# Altium footprint library con-hirschmann.PCBLIB: 22 footprints (part 2 of 2)
Each footprint in its own frame and in the unit in brackets; x right, y up, seen from the top. Pads: shape width x height; smd on the part's side, far side on the other; paste and mask are expansions set on the pad; w line width, h text height; cw(c..) or ccw(c..) is an arc to the next point about the centre after c.
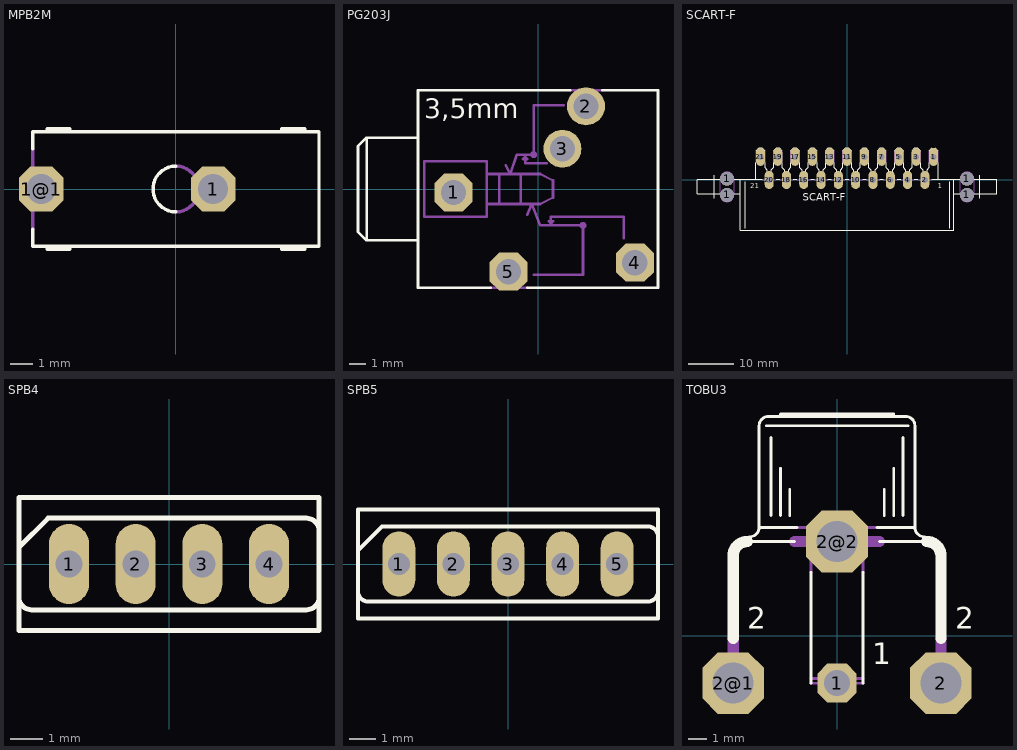
[diagram p1: the footprints below, top view; thin cyan lines are the x and y axes]

## MPB2M [mil]
pads (2):
  oct 78x78 hole 52: 1(65,0) 1@1(-235,0)
Top Overlay:
  lines w6: -250,-70 -250,-100 -225,-100 ; -250,70 -250,100 -225,100 ; 0,-40 cw(c0,0) 0,40 ; -225,-100 -225,-105 -185,-105 -185,-100 ; -225,-100 -185,-100 ; -225,100 -185,100 ; -225,100 -225,105 -185,105 -185,100 ; -185,-100 185,-100 ; -185,100 185,100 ; 185,-100 185,-105 225,-105 225,-100 ; 185,-100 225,-100 ; 185,100 225,100 ; 185,100 185,105 225,105 225,100 ; 225,-100 250,-100 250,100 225,100
Mechanical 16:
  lines w6: -250,-70 -250,70 ; 0,-40 ccw(c0,0) 0,40

## PG203J [mil]
pads (5):
  oct 88.5x88.5 hole 59: 1(-197,-8) 4(226,-172) 5(-69,-193)
  round 88.5 hole 59: 2(112,193) 3(57,94)
Top Overlay:
  lines w6: -110,-230 -280,-230 -280,-120 ; -25,-230 280,-230 280,230 150,230 ; 75,230 -280,230 -280,120 ; -400,-120 -280,-120 ; -400,-120 -420,-100 -420,100 -400,120 ; -400,-120 -400,120 ; -400,120 -280,120 ; -280,-120 -280,120
  text "3,5mm" at -265,150 h77.5
Mechanical 16:
  circle w6: c105,-85 r5
  circle w6: c-10,80 r5
  lines w6: -110,-230 -25,-230 ; -75,55 -65,35 ; -25,-60 -15,-35 ; -10,-200 105,-200 105,-85 30,-85 ; 20,60 -30,60 -30,75 ; 60,195 -10,195 -10,80 -30,80 ; 75,230 150,230 ; 200,-115 200,-65 30,-65 30,-80 ; -120,-35 -120,35 ; -120,-35 -120,-65 -265,-65 -265,65 -120,65 -120,35 ; -120,-35 -90,-35 ; -120,35 -90,35 ; -90,-35 -40,-35 ; -90,-35 -90,35 ; -90,35 -65,35 ; -65,35 -50,80 -30,80 ; -65,35 -40,35 ; -40,-35 -40,35 ; -40,-35 -15,-35 ; -40,35 5,35 35,20 35,-20 5,-35 -15,-35 ; -30,75 -30,80 ; -30,75 -35,70 -25,70 -30,75 ; -15,-35 5,-85 30,-85 ; 30,-85 30,-80 ; 30,-80 25,-75 35,-75 30,-80
  text "1" at -250,-50 h77.5
  text "2" at 165,150 h77.5
  text "3" at 110,50 h77.5
  text "4" at 215,-110 h77.5
  text "5" at -5,-185 h77.5

## SCART-F [mil]
pads (25):
  round 119 hole 119: 1(-1040,-130) 1(-1040,10) 1(1040,-130) 1(1040,10)
  oval 78x156 hole 52: 1(750,200) 2(675,0) 3(600,200) 4(525,0) 5(450,200) 6(375,0) 7(300,200) 8(225,0) 9(150,200) 10(75,0) 11(0,200) 12(-75,0) 13(-150,200) 14(-225,0) 15(-300,200) 16(-375,0) 17(-450,200) 18(-525,0) 19(-600,200) 20(-675,0) 21(-750,200)
Top Overlay:
  lines w2: -885,-420 -885,-15 ; 885,-420 885,-15
  lines w6: -1150,-160 -1150,40 ; -790,150 -790,0 ; -790,250 -765,275 -735,275 -710,250 ; -735,0 -790,0 ; -710,150 -710,105 -690,85 -690,60 -660,60 -660,85 -640,105 -640,150 ; -640,250 -615,275 -585,275 -560,250 ; -615,0 -585,0 ; -560,150 -560,105 -540,85 -540,60 -510,60 -510,85 -490,105 -490,150 ; -490,250 -465,275 -435,275 -410,250 ; -465,0 -435,0 ; -410,150 -410,105 -390,85 -390,60 -360,60 -360,85 -340,105 -340,150 ; -340,250 -315,275 -285,275 -260,250 ; -315,0 -285,0 ; -260,150 -260,105 -240,85 -240,60 -210,60 -210,85 -190,105 -190,150 ; -190,250 -165,275 -135,275 -110,250 ; -165,0 -135,0 ; -110,150 -110,105 -90,85 -90,60 -60,60 -60,85 -40,105 -40,150 ; -40,250 -15,275 15,275 40,250 ; -15,0 15,0 ; 40,150 40,105 60,85 60,60 90,60 90,85 110,105 110,150 ; 110,250 135,275 165,275 190,250 ; 135,0 165,0 ; 190,150 190,105 210,85 210,60 240,60 240,85 260,105 260,150 ; 260,250 285,275 315,275 340,250 ; 285,0 315,0 ; 340,150 340,105 360,85 360,60 390,60 390,85 410,105 410,150 ; 410,250 435,275 465,275 490,250 ; 435,0 465,0 ; 490,150 490,105 510,85 510,60 540,60 540,85 560,105 560,150 ; 560,250 585,275 615,275 640,250 ; 585,0 615,0 ; 640,150 640,105 660,85 660,60 690,60 690,85 710,105 710,150 ; 710,250 735,275 765,275 790,250 ; 735,0 790,0 ; 790,150 790,0 ; 1150,-160 1150,40 ; -925,-120 -925,0 ; -925,-120 -1300,-120 -1300,0 -925,0 ; -925,-120 -925,-435 925,-435 925,-120 ; -925,0 -790,0 ; 790,0 925,0 ; 925,-120 1300,-120 1300,0 925,0 ; 925,-120 925,0
  text "1" at 785,-90 h77.5
  text "21" at -840,-90 h77.5
  text "SCART-F" at -385,-200 h108.5
Mechanical 1:
  lines w0: -1100,-130 ccw(c-1040,-130) -980,-130 ; -1100,10 cw(c-1040,10) -980,10 ; 980,-130 ccw(c1040,-130) 1100,-130 ; 980,10 cw(c1040,10) 1100,10
  lines w0.09: -1100,-130 -1100,10 ; -980,-130 -980,10 ; 980,-130 980,10 ; 1100,-130 1100,10
Mechanical 12:
  text "3,0" at 975,-280 h108.5
  text "long" at 1255,-300 h108.5
  text "3,0" at -1105,-280 h108.5
  text "long" at -1145,-305 h108.5
Mechanical 16:
  lines w6: -790,150 -790,250 ; -735,0 -615,0 ; -710,150 -710,250 ; -640,150 -640,250 ; -585,0 -465,0 ; -560,150 -560,250 ; -490,150 -490,250 ; -435,0 -315,0 ; -410,150 -410,250 ; -340,150 -340,250 ; -285,0 -165,0 ; -260,150 -260,250 ; -190,150 -190,250 ; -135,0 -15,0 ; -110,150 -110,250 ; -40,150 -40,250 ; 15,0 135,0 ; 40,150 40,250 ; 110,150 110,250 ; 165,0 285,0 ; 190,150 190,250 ; 260,150 260,250 ; 315,0 435,0 ; 340,150 340,250 ; 410,150 410,250 ; 465,0 585,0 ; 490,150 490,250 ; 560,150 560,250 ; 615,0 735,0 ; 640,150 640,250 ; 710,150 710,250 ; 790,150 790,250

## SPB4 [mil]
pads (4):
  oval 48x96 hole 32: 1(-120,0) 2(-40,0) 3(40,0) 4(120,0)
Top Overlay:
  lines w6: -180,-40 ccw(c-165,-40) -165,-55 165,-55 ccw(c165,-40) 180,-40 ; 180,40 ccw(c165,40) 165,55 -145,55 -180,20 ; -180,20 -180,80 180,80 180,-80 -180,-80 -180,20
Mechanical 16:
  circle w6: c40,0 r20
  circle w6: c120,0 r20
  circle w6: c-40,0 r20
  circle w6: c-120,0 r20

## SPB5 [mil]
pads (5):
  oval 48x96 hole 32: 1(-160,0) 2(-80,0) 3(0,0) 4(80,0) 5(160,0)
Top Overlay:
  lines w6: -220,-40 ccw(c-205,-40) -205,-55 205,-55 ccw(c205,-40) 220,-40 ; 220,40 ccw(c205,40) 205,55 -185,55 -220,20 ; -220,20 -220,80 220,80 220,-80 -220,-80 -220,20
Mechanical 16:
  circle w6: c0,0 r20
  circle w6: c80,0 r20
  circle w6: c-80,0 r20
  circle w6: c-160,0 r20
  circle w6: c160,0 r20

## TOBU3 [mil]
pads (4):
  oct 82.5x82.5 hole 55: 1(0,-100)
  oct 130.5x130.5 hole 87: 2(220,-100) 2@1(-220,-100) 2@2(0,200)
Top Overlay:
  lines w6: -190,200 -90,200 ; -185,210 ccw(c-185,230) -165,230 ; -150,445 150,445 ; -140,255 -140,420 ; -120,255 -120,355 ; -100,255 -100,310 ; -85,230 -165,230 ; -55,-100 -55,135 ; 55,-100 55,135 ; 85,230 165,230 ; 90,200 190,200 ; 100,255 100,310 ; 120,255 120,355 ; 140,255 140,420 ; 185,210 cw(c185,230) 165,230 ; -165,230 -165,445 cw(c-145,445) -145,465 -120,465 ; -120,465 -120,470 120,470 120,465 ; -120,465 120,465 ; 120,465 145,465 cw(c145,445) 165,445 165,230
  lines w24: -220,-5 -220,170 cw(c-190,170) -190,200 ; 190,200 cw(c190,170) 220,170 220,-5
  text "1" at 75,-75 h77.5
  text "2" at 250,0 h77.5
  text "2" at -190,0 h77.5
Mechanical 16:
  lines w6: -85,230 85,230 ; -55,-100 55,-100 ; -55,-90 55,-90 ; -55,135 -55,200 ; 55,135 55,200
  lines w24: -220,-130 -220,-5 ; -90,200 -55,200 55,200 90,200 ; 220,-130 220,-5